# Altium schematic symbol library SM13072APEL_XFMR16P.SchLib: 1 symbol
Pins are listed as number, name and electrical type; pins without a type are passive.

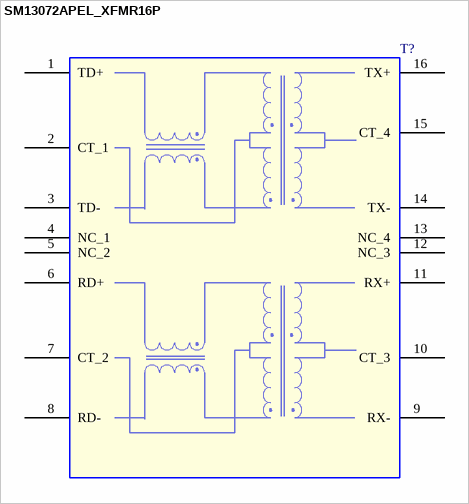
[diagram p0: symbol SM13072APEL_XFMR16P]

## SM13072APEL_XFMR16P
designator T?
XFMR LAN 10/100BASE-TX 1CT:1CT SMT
pins: 1 TD+, 2 CT_1, 3 TD-, 4 NC_1, 5 NC_2, 6 RD+, 7 CT_2, 8 RD-, 9 RX-, 10 CT_3, 11 RX+, 12 NC_3, 13 NC_4, 14 TX-, 15 CT_4, 16 TX+